# EAGLE library part MAX3051 (library at91sam7x-ek)
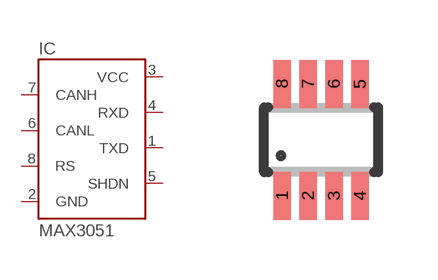
[diagram p4: symbol with the pads of SOT23-8; footprint SOT23-8]

Designator prefix IC

## MAX3051EKA  [SOT23-8]
1  TXD  in
2  GND  pwr
3  VCC  pwr
4  RXD  out
5  SHDN  pas
6  CANL
7  CANH
8  RS  in

## Footprint SOT23-8 (pad centres in mm)
Small Outline Transistor
smd 0.44 x 1.2: 1 -0.975,-1.4; 2 -0.325,-1.4; 3 0.325,-1.4; 4 0.975,-1.4; 5 0.975,1.4; 6 0.325,1.4; 7 -0.325,1.4; 8 -0.975,1.4